# EAGLE library part ML620Q504 (library lazurite)
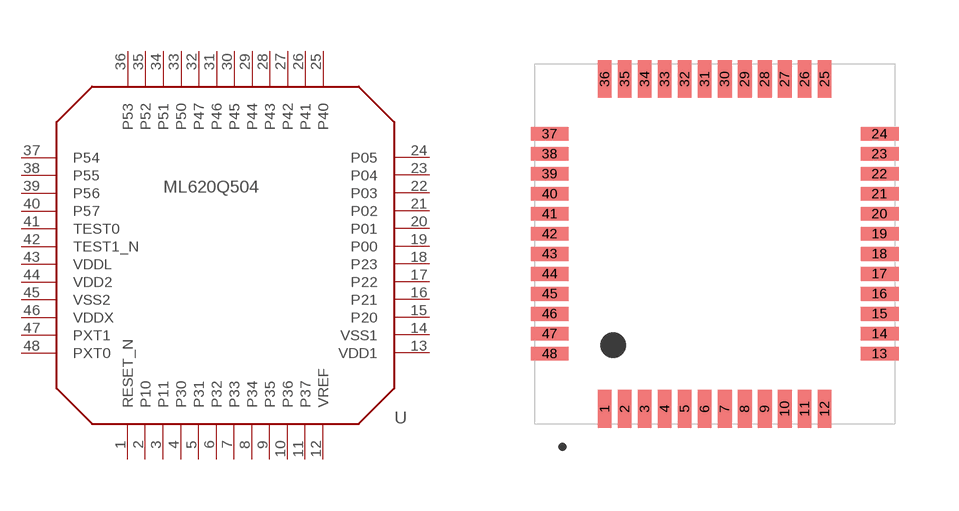
[diagram p5: symbol with the pads of ML620Q504; footprint ML620Q504]

Designator prefix -

## ML620Q504  [ML620Q504]
1  RESET_N
2  P10
3  P11
4  P30
5  P31
6  P32
7  P33
8  P34
9  P35
10  P36
11  P37
12  VREF
13  VDD1
14  VSS1
15  P20
16  P21
17  P22
18  P23
19  P00
20  P01
21  P02
22  P03
23  P04
24  P05
25  P40
26  P41
27  P42
28  P43
29  P44
30  P45
31  P46
32  P47
33  P50
34  P51
35  P52
36  P53
37  P54
38  P55
39  P56
40  P57
41  TEST0
42  TEST1_N
43  VDDL
44  VDD2
45  VSS2
46  VDDX
47  PXT1
48  PXT0

## Footprint ML620Q504 (pad centres in mm)
smd 0.35 x 0.95: 1 -2.75,-4.125; 2 -2.25,-4.125; 3 -1.75,-4.125; 4 -1.25,-4.125; 5 -0.75,-4.125; 6 -0.25,-4.125; 7 0.25,-4.125; 8 0.75,-4.125; 9 1.25,-4.125; 10 1.75,-4.125; 11 2.25,-4.125; 12 2.75,-4.125; 25 2.75,4.125; 26 2.25,4.125; 27 1.75,4.125; 28 1.25,4.125; 29 0.75,4.125; 30 0.25,4.125; 31 -0.25,4.125; 32 -0.75,4.125; 33 -1.25,4.125; 34 -1.75,4.125; 35 -2.25,4.125; 36 -2.75,4.125
smd 0.95 x 0.35: 13 4.125,-2.75; 14 4.125,-2.25; 15 4.125,-1.75; 16 4.125,-1.25; 17 4.125,-0.75; 18 4.125,-0.25; 19 4.125,0.25; 20 4.125,0.75; 21 4.125,1.25; 22 4.125,1.75; 23 4.125,2.25; 24 4.125,2.75; 37 -4.125,2.75; 38 -4.125,2.25; 39 -4.125,1.75; 40 -4.125,1.25; 41 -4.125,0.75; 42 -4.125,0.25; 43 -4.125,-0.25; 44 -4.125,-0.75; 45 -4.125,-1.25; 46 -4.125,-1.75; 47 -4.125,-2.25; 48 -4.125,-2.75